# EAGLE library part TDA7498L (library Class D Amp)
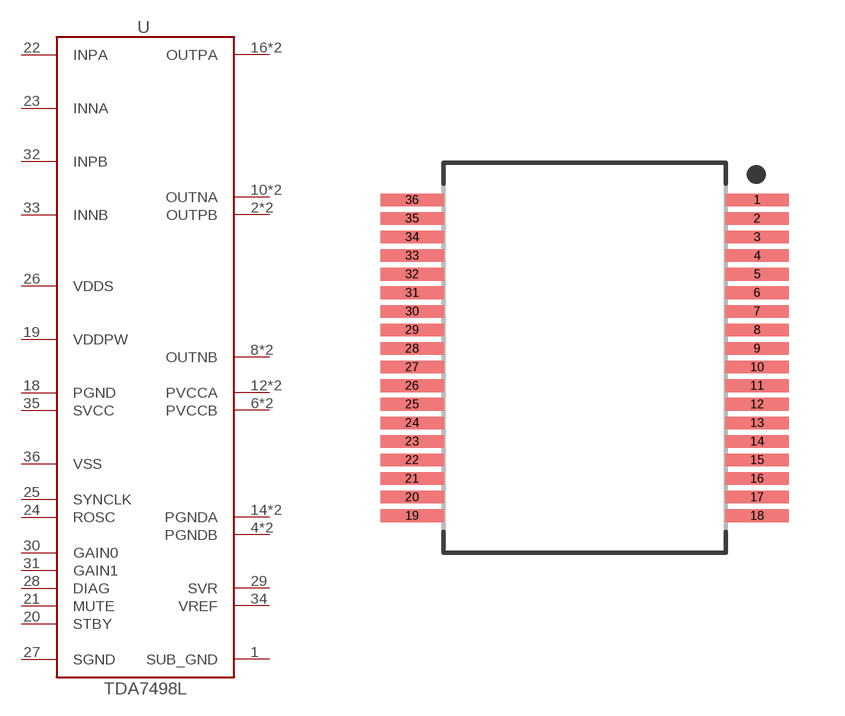
[diagram p0: symbol with the pads of SOP50P1010X245-36; footprint SOP50P1010X245-36]

Designator prefix U

## TDA7498L (CONRAD: 1184453 - 62)  [SOP50P1010X245-36]
1  SUB_GND
2  OUTPB
3  OUTPB
4  PGNDB
5  PGNDB
6  PVCCB
7  PVCCB
8  OUTNB
9  OUTNB
10  OUTNA
11  OUTNA
12  PVCCA
13  PVCCA
14  PGNDA
15  PGNDA
16  OUTPA
17  OUTPA
18  PGND
19  VDDPW
20  STBY
21  MUTE
22  INPA
23  INNA
24  ROSC
25  SYNCLK
26  VDDS
27  SGND
28  DIAG
29  SVR
30  GAIN0
31  GAIN1
32  INPB
33  INNB
34  VREF
35  SVCC
36  VSS

## Footprint SOP50P1010X245-36 (pad centres in mm)
36-SOP, 0.50 mm pitch, 10.10 mm span, 10.30 X 7.50 X 2.45 mm body 36-pin SOP package with 0.50 mm pitch, 10.10 mm span with body size 10.30 X 7.50 X 2.45 mm
smd 1.703 x 0.34: 1 4.646,4.25; 2 4.646,3.75; 3 4.646,3.25; 4 4.646,2.75; 5 4.646,2.25; 6 4.646,1.75; 7 4.646,1.25; 8 4.646,0.75; 9 4.646,0.25; 10 4.646,-0.25; 11 4.646,-0.75; 12 4.646,-1.25; 13 4.646,-1.75; 14 4.646,-2.25; 15 4.646,-2.75; 16 4.646,-3.25; 17 4.646,-3.75; 18 4.646,-4.25; 19 -4.646,-4.25; 20 -4.646,-3.75; 21 -4.646,-3.25; 22 -4.646,-2.75; 23 -4.646,-2.25; 24 -4.646,-1.75; 25 -4.646,-1.25; 26 -4.646,-0.75; 27 -4.646,-0.25; 28 -4.646,0.25; 29 -4.646,0.75; 30 -4.646,1.25; 31 -4.646,1.75; 32 -4.646,2.25; 33 -4.646,2.75; 34 -4.646,3.25; 35 -4.646,3.75; 36 -4.646,4.25